# Altium footprint library omnivision.PCBLIB: 1 footprints
Each footprint in its own frame and in the unit in brackets; x right, y up, seen from the top. Pads: shape width x height; smd on the part's side, far side on the other; paste and mask are expansions set on the pad; w line width, h text height; cw(c..) or ccw(c..) is an arc to the next point about the centre after c.
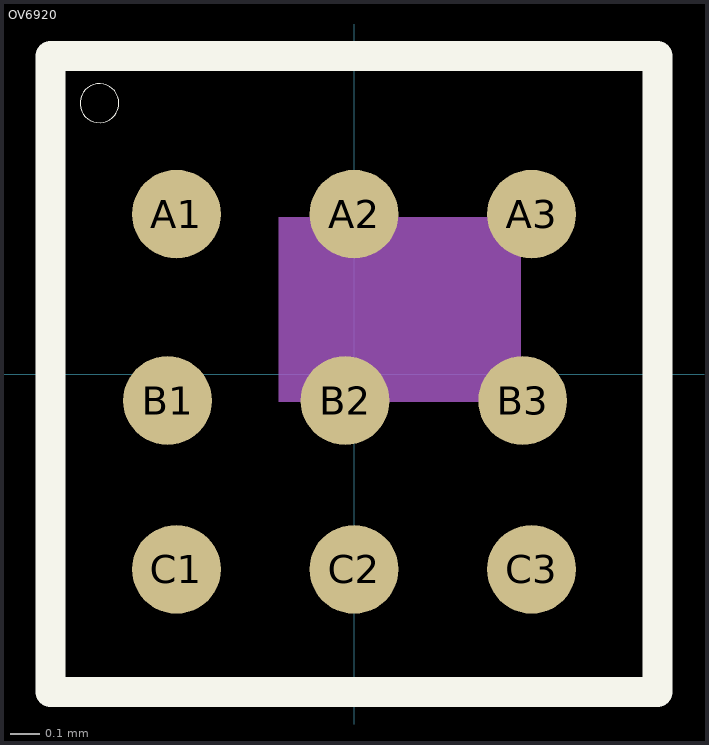
[diagram p0: the footprint, top view; thin cyan lines are the x and y axes]

## OV6920 [mm]
pads (9):
  rrect100% 0.3x0.3 smd: A1(-0.6,0.54) A2(0,0.54) A3(0.6,0.54) B1(-0.63,-0.09) B2(-0.03,-0.09) B3(0.57,-0.09) C1(-0.6,-0.66) C2(0,-0.66) C3(0.6,-0.66)
Top Overlay:
  circle w0: c-0.86,0.915 r0.066
  lines w0.102: -1.025,-1.075 1.025,-1.075 1.025,1.075 -1.025,1.075 -1.025,-1.075
Top Solder:
  circle w0: c-0.6,0.54 r0.175
  circle w0: c0,0.54 r0.175
  circle w0: c0.6,0.54 r0.175
  circle w0: c-0.63,-0.09 r0.175
  circle w0: c-0.6,-0.66 r0.175
  circle w0: c-0.03,-0.09 r0.175
  circle w0: c0.57,-0.09 r0.175
  circle w0: c0,-0.66 r0.175
  circle w0: c0.6,-0.66 r0.175
Mechanical 16:
  rectangle: -0.255,-0.095 0.565,0.53